# Altium footprint library Connector_Samtec_HLE_THT.PcbLib: 141 footprints (part 2 of 9)
Each footprint in its own frame and in the unit in brackets; x right, y up, seen from the top. Pads: shape width x height; smd on the part's side, far side on the other; paste and mask are expansions set on the pad; w line width, h text height; cw(c..) or ccw(c..) is an arc to the next point about the centre after c.
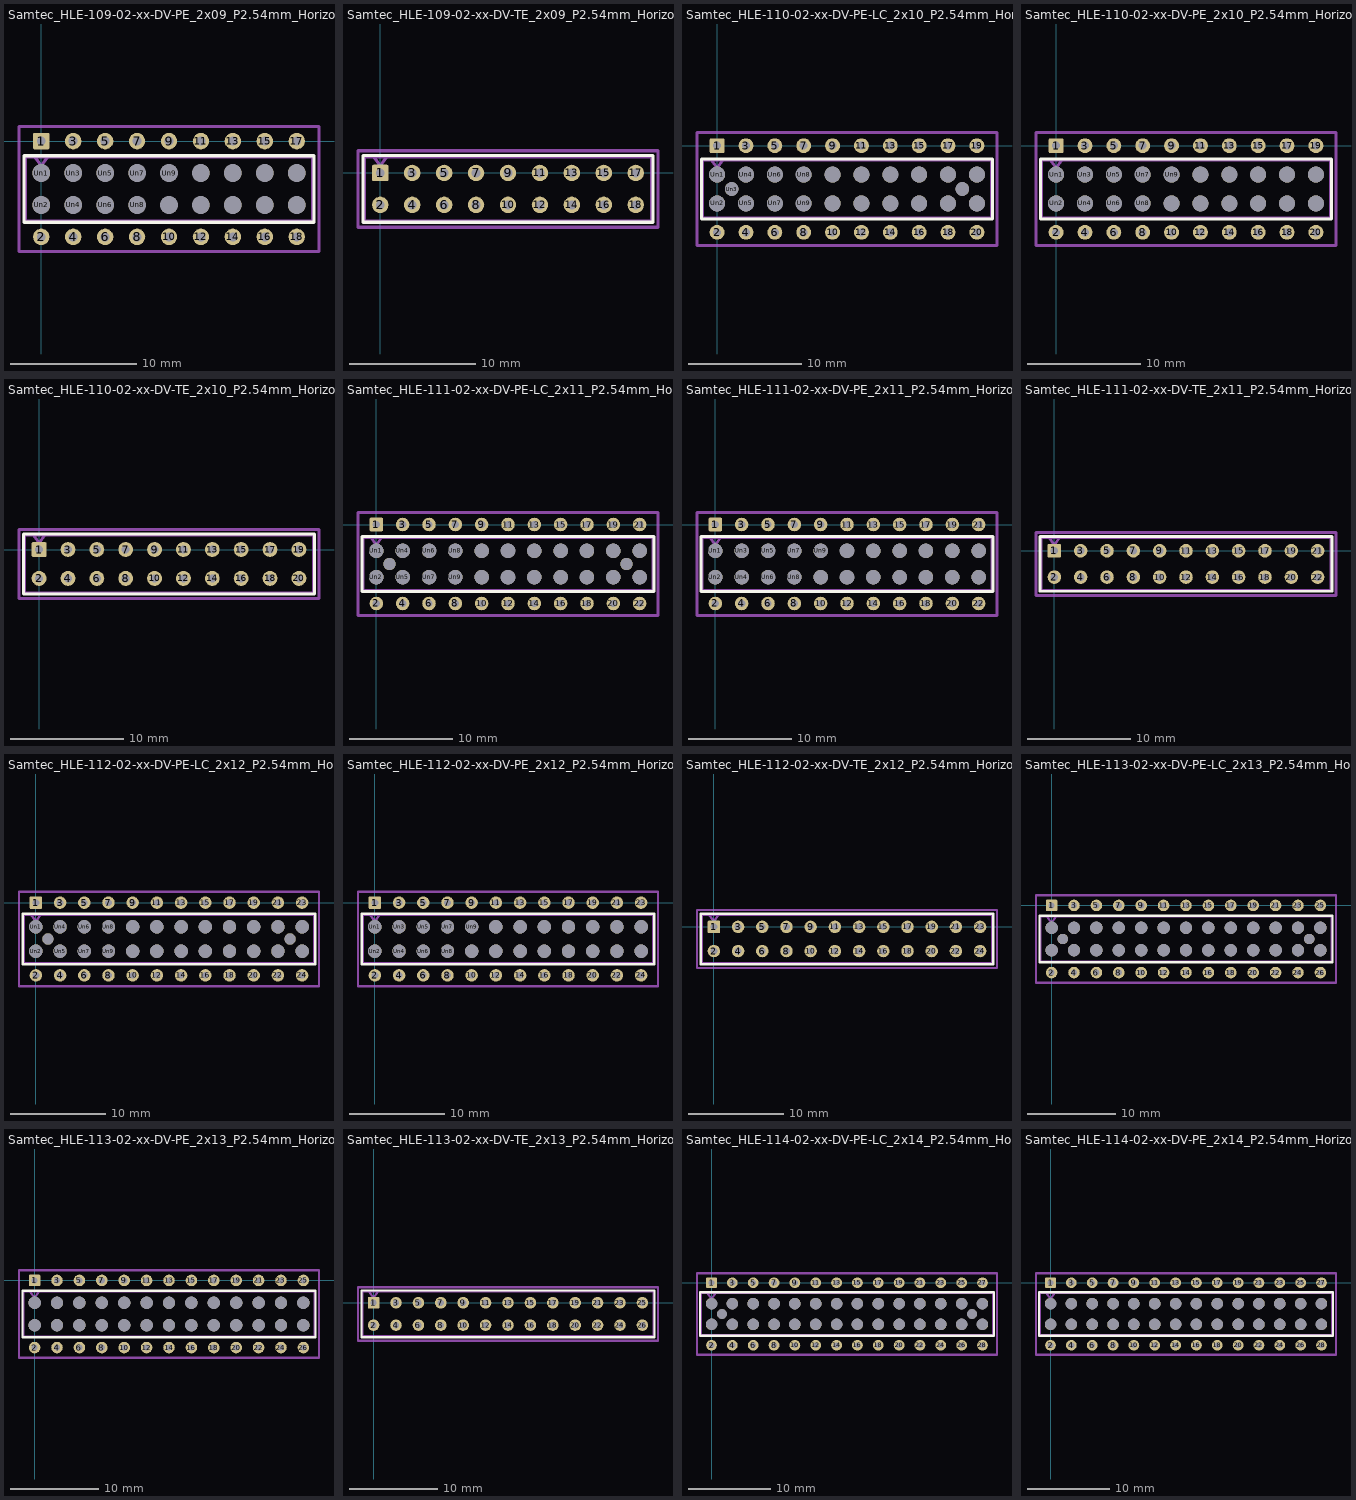
[diagram p1: the footprints below, top view; thin cyan lines are the x and y axes]

## Samtec_HLE-109-02-xx-DV-PE_2x09_P2.54mm_Horizontal [mm]
pads (36):
  rrect19% 1.31x1.31 hole 0.71: 1(0,0)
  round 1.31 hole 0.71: 2(0,-7.62) 3(2.54,0) 4(2.54,-7.62) 5(5.08,0) 6(5.08,-7.62) 7(7.62,0) 8(7.62,-7.62) 9(10.16,0) 10(10.16,-7.62) 11(12.7,0) 12(12.7,-7.62) 13(15.24,0) 14(15.24,-7.62) 15(17.78,0) 16(17.78,-7.62) 17(20.32,0) 18(20.32,-7.62)
  round 1.4 hole 1.4: Un1(0,-2.54) Un2(0,-5.08) Un3(2.54,-2.54) Un4(2.54,-5.08) Un5(5.08,-2.54) Un6(5.08,-5.08) Un7(7.62,-2.54) Un8(7.62,-5.08) Un9(10.16,-2.54) Un10(10.16,-5.08) Un11(12.7,-2.54) Un12(12.7,-5.08) Un13(15.24,-2.54) Un14(15.24,-5.08) Un15(17.78,-2.54) Un16(17.78,-5.08) Un17(20.32,-2.54) Un18(20.32,-5.08)
F.SilkS:
  lines w0.254: -1.38,-6.46 21.7,-6.46 21.7,-1.16 -1.38,-1.16 -1.38,-6.46
Top Assembly:
  lines w0.254: -0.5,-1.27 0,-1.977 0.5,-1.27 ; -1.27,-6.35 21.59,-6.35 21.59,-1.27 -1.27,-1.27 -1.27,-6.35
  text "'.Designator'" at 6.113,-6.49 h1
Top Courtyard:
  lines w0.254: -1.77,-8.78 22.09,-8.78 22.09,1.16 -1.77,1.16 -1.77,-8.78
Top Designator:
  text ".Designator" at 2.542,-4.318 h1.52

## Samtec_HLE-109-02-xx-DV-TE_2x09_P2.54mm_Horizontal [mm]
pads (18):
  rrect19% 1.31x1.31 hole 0.71: 1(0,0)
  round 1.31 hole 0.71: 2(0,-2.54) 3(2.54,0) 4(2.54,-2.54) 5(5.08,0) 6(5.08,-2.54) 7(7.62,0) 8(7.62,-2.54) 9(10.16,0) 10(10.16,-2.54) 11(12.7,0) 12(12.7,-2.54) 13(15.24,0) 14(15.24,-2.54) 15(17.78,0) 16(17.78,-2.54) 17(20.32,0) 18(20.32,-2.54)
F.SilkS:
  lines w0.254: -1.38,-3.92 21.7,-3.92 21.7,1.38 -1.38,1.38 -1.38,-3.92
Top Assembly:
  lines w0.254: -0.5,1.27 0,0.563 0.5,1.27 ; -1.27,-3.81 21.59,-3.81 21.59,1.27 -1.27,1.27 -1.27,-3.81
  text "'.Designator'" at 6.113,-3.95 h1
Top Courtyard:
  lines w0.254: -1.77,-4.32 22.09,-4.32 22.09,1.77 -1.77,1.77 -1.77,-4.32
Top Designator:
  text ".Designator" at 2.542,-1.783 h1.52

## Samtec_HLE-110-02-xx-DV-PE-LC_2x10_P2.54mm_Horizontal [mm]
pads (42):
  rrect19% 1.31x1.31 hole 0.71: 1(0,0)
  round 1.31 hole 0.71: 2(0,-7.62) 3(2.54,0) 4(2.54,-7.62) 5(5.08,0) 6(5.08,-7.62) 7(7.62,0) 8(7.62,-7.62) 9(10.16,0) 10(10.16,-7.62) 11(12.7,0) 12(12.7,-7.62) 13(15.24,0) 14(15.24,-7.62) 15(17.78,0) 16(17.78,-7.62) 17(20.32,0) 18(20.32,-7.62) 19(22.86,0) 20(22.86,-7.62)
  round 1.4 hole 1.4: Un1(0,-2.54) Un2(0,-5.08) Un4(2.54,-2.54) Un5(2.54,-5.08) Un6(5.08,-2.54) Un7(5.08,-5.08) Un8(7.62,-2.54) Un9(7.62,-5.08) Un10(10.16,-2.54) Un11(10.16,-5.08) Un12(12.7,-2.54) Un13(12.7,-5.08) Un14(15.24,-2.54) Un15(15.24,-5.08) Un16(17.78,-2.54) Un17(17.78,-5.08) Un18(20.32,-2.54) Un19(20.32,-5.08) Un21(22.86,-2.54) Un22(22.86,-5.08)
  round 1.19 hole 1.19: Un3(1.27,-3.81) Un20(21.59,-3.81)
F.SilkS:
  lines w0.254: -1.38,-6.46 24.24,-6.46 24.24,-1.16 -1.38,-1.16 -1.38,-6.46
Top Assembly:
  lines w0.254: -0.5,-1.27 0,-1.977 0.5,-1.27 ; -1.27,-6.35 24.13,-6.35 24.13,-1.27 -1.27,-1.27 -1.27,-6.35
  text "'.Designator'" at 7.383,-6.49 h1
Top Courtyard:
  lines w0.254: -1.77,-8.78 24.63,-8.78 24.63,1.16 -1.77,1.16 -1.77,-8.78
Top Designator:
  text ".Designator" at 3.812,-4.318 h1.52

## Samtec_HLE-110-02-xx-DV-PE_2x10_P2.54mm_Horizontal [mm]
pads (40):
  rrect19% 1.31x1.31 hole 0.71: 1(0,0)
  round 1.31 hole 0.71: 2(0,-7.62) 3(2.54,0) 4(2.54,-7.62) 5(5.08,0) 6(5.08,-7.62) 7(7.62,0) 8(7.62,-7.62) 9(10.16,0) 10(10.16,-7.62) 11(12.7,0) 12(12.7,-7.62) 13(15.24,0) 14(15.24,-7.62) 15(17.78,0) 16(17.78,-7.62) 17(20.32,0) 18(20.32,-7.62) 19(22.86,0) 20(22.86,-7.62)
  round 1.4 hole 1.4: Un1(0,-2.54) Un2(0,-5.08) Un3(2.54,-2.54) Un4(2.54,-5.08) Un5(5.08,-2.54) Un6(5.08,-5.08) Un7(7.62,-2.54) Un8(7.62,-5.08) Un9(10.16,-2.54) Un10(10.16,-5.08) Un11(12.7,-2.54) Un12(12.7,-5.08) Un13(15.24,-2.54) Un14(15.24,-5.08) Un15(17.78,-2.54) Un16(17.78,-5.08) Un17(20.32,-2.54) Un18(20.32,-5.08) Un19(22.86,-2.54) Un20(22.86,-5.08)
F.SilkS:
  lines w0.254: -1.38,-6.46 24.24,-6.46 24.24,-1.16 -1.38,-1.16 -1.38,-6.46
Top Assembly:
  lines w0.254: -0.5,-1.27 0,-1.977 0.5,-1.27 ; -1.27,-6.35 24.13,-6.35 24.13,-1.27 -1.27,-1.27 -1.27,-6.35
  text "'.Designator'" at 7.383,-6.49 h1
Top Courtyard:
  lines w0.254: -1.77,-8.78 24.63,-8.78 24.63,1.16 -1.77,1.16 -1.77,-8.78
Top Designator:
  text ".Designator" at 3.812,-4.318 h1.52

## Samtec_HLE-110-02-xx-DV-TE_2x10_P2.54mm_Horizontal [mm]
pads (20):
  rrect19% 1.31x1.31 hole 0.71: 1(0,0)
  round 1.31 hole 0.71: 2(0,-2.54) 3(2.54,0) 4(2.54,-2.54) 5(5.08,0) 6(5.08,-2.54) 7(7.62,0) 8(7.62,-2.54) 9(10.16,0) 10(10.16,-2.54) 11(12.7,0) 12(12.7,-2.54) 13(15.24,0) 14(15.24,-2.54) 15(17.78,0) 16(17.78,-2.54) 17(20.32,0) 18(20.32,-2.54) 19(22.86,0) 20(22.86,-2.54)
F.SilkS:
  lines w0.254: -1.38,-3.92 24.24,-3.92 24.24,1.38 -1.38,1.38 -1.38,-3.92
Top Assembly:
  lines w0.254: -0.5,1.27 0,0.563 0.5,1.27 ; -1.27,-3.81 24.13,-3.81 24.13,1.27 -1.27,1.27 -1.27,-3.81
  text "'.Designator'" at 7.383,-3.95 h1
Top Courtyard:
  lines w0.254: -1.77,-4.32 24.63,-4.32 24.63,1.77 -1.77,1.77 -1.77,-4.32
Top Designator:
  text ".Designator" at 3.812,-1.783 h1.52

## Samtec_HLE-111-02-xx-DV-PE-LC_2x11_P2.54mm_Horizontal [mm]
pads (46):
  rrect19% 1.31x1.31 hole 0.71: 1(0,0)
  round 1.31 hole 0.71: 2(0,-7.62) 3(2.54,0) 4(2.54,-7.62) 5(5.08,0) 6(5.08,-7.62) 7(7.62,0) 8(7.62,-7.62) 9(10.16,0) 10(10.16,-7.62) 11(12.7,0) 12(12.7,-7.62) 13(15.24,0) 14(15.24,-7.62) 15(17.78,0) 16(17.78,-7.62) 17(20.32,0) 18(20.32,-7.62) 19(22.86,0) 20(22.86,-7.62) 21(25.4,0) 22(25.4,-7.62)
  round 1.4 hole 1.4: Un1(0,-2.54) Un2(0,-5.08) Un4(2.54,-2.54) Un5(2.54,-5.08) Un6(5.08,-2.54) Un7(5.08,-5.08) Un8(7.62,-2.54) Un9(7.62,-5.08) Un10(10.16,-2.54) Un11(10.16,-5.08) Un12(12.7,-2.54) Un13(12.7,-5.08) Un14(15.24,-2.54) Un15(15.24,-5.08) Un16(17.78,-2.54) Un17(17.78,-5.08) Un18(20.32,-2.54) Un19(20.32,-5.08) Un20(22.86,-2.54) Un21(22.86,-5.08) Un23(25.4,-2.54) Un24(25.4,-5.08)
  round 1.19 hole 1.19: Un3(1.27,-3.81) Un22(24.13,-3.81)
F.SilkS:
  lines w0.254: -1.38,-6.46 26.78,-6.46 26.78,-1.16 -1.38,-1.16 -1.38,-6.46
Top Assembly:
  lines w0.254: -0.5,-1.27 0,-1.977 0.5,-1.27 ; -1.27,-6.35 26.67,-6.35 26.67,-1.27 -1.27,-1.27 -1.27,-6.35
  text "'.Designator'" at 8.653,-6.49 h1
Top Courtyard:
  lines w0.254: -1.77,-8.78 27.17,-8.78 27.17,1.16 -1.77,1.16 -1.77,-8.78
Top Designator:
  text ".Designator" at 5.082,-4.318 h1.52

## Samtec_HLE-111-02-xx-DV-PE_2x11_P2.54mm_Horizontal [mm]
pads (44):
  rrect19% 1.31x1.31 hole 0.71: 1(0,0)
  round 1.31 hole 0.71: 2(0,-7.62) 3(2.54,0) 4(2.54,-7.62) 5(5.08,0) 6(5.08,-7.62) 7(7.62,0) 8(7.62,-7.62) 9(10.16,0) 10(10.16,-7.62) 11(12.7,0) 12(12.7,-7.62) 13(15.24,0) 14(15.24,-7.62) 15(17.78,0) 16(17.78,-7.62) 17(20.32,0) 18(20.32,-7.62) 19(22.86,0) 20(22.86,-7.62) 21(25.4,0) 22(25.4,-7.62)
  round 1.4 hole 1.4: Un1(0,-2.54) Un2(0,-5.08) Un3(2.54,-2.54) Un4(2.54,-5.08) Un5(5.08,-2.54) Un6(5.08,-5.08) Un7(7.62,-2.54) Un8(7.62,-5.08) Un9(10.16,-2.54) Un10(10.16,-5.08) Un11(12.7,-2.54) Un12(12.7,-5.08) Un13(15.24,-2.54) Un14(15.24,-5.08) Un15(17.78,-2.54) Un16(17.78,-5.08) Un17(20.32,-2.54) Un18(20.32,-5.08) Un19(22.86,-2.54) Un20(22.86,-5.08) Un21(25.4,-2.54) Un22(25.4,-5.08)
F.SilkS:
  lines w0.254: -1.38,-6.46 26.78,-6.46 26.78,-1.16 -1.38,-1.16 -1.38,-6.46
Top Assembly:
  lines w0.254: -0.5,-1.27 0,-1.977 0.5,-1.27 ; -1.27,-6.35 26.67,-6.35 26.67,-1.27 -1.27,-1.27 -1.27,-6.35
  text "'.Designator'" at 8.653,-6.49 h1
Top Courtyard:
  lines w0.254: -1.77,-8.78 27.17,-8.78 27.17,1.16 -1.77,1.16 -1.77,-8.78
Top Designator:
  text ".Designator" at 5.082,-4.318 h1.52

## Samtec_HLE-111-02-xx-DV-TE_2x11_P2.54mm_Horizontal [mm]
pads (22):
  rrect19% 1.31x1.31 hole 0.71: 1(0,0)
  round 1.31 hole 0.71: 2(0,-2.54) 3(2.54,0) 4(2.54,-2.54) 5(5.08,0) 6(5.08,-2.54) 7(7.62,0) 8(7.62,-2.54) 9(10.16,0) 10(10.16,-2.54) 11(12.7,0) 12(12.7,-2.54) 13(15.24,0) 14(15.24,-2.54) 15(17.78,0) 16(17.78,-2.54) 17(20.32,0) 18(20.32,-2.54) 19(22.86,0) 20(22.86,-2.54) 21(25.4,0) 22(25.4,-2.54)
F.SilkS:
  lines w0.254: -1.38,-3.92 26.78,-3.92 26.78,1.38 -1.38,1.38 -1.38,-3.92
Top Assembly:
  lines w0.254: -0.5,1.27 0,0.563 0.5,1.27 ; -1.27,-3.81 26.67,-3.81 26.67,1.27 -1.27,1.27 -1.27,-3.81
  text "'.Designator'" at 8.653,-3.95 h1
Top Courtyard:
  lines w0.254: -1.77,-4.32 27.17,-4.32 27.17,1.77 -1.77,1.77 -1.77,-4.32
Top Designator:
  text ".Designator" at 5.082,-1.783 h1.52

## Samtec_HLE-112-02-xx-DV-PE-LC_2x12_P2.54mm_Horizontal [mm]
pads (50):
  rrect19% 1.31x1.31 hole 0.71: 1(0,0)
  round 1.31 hole 0.71: 2(0,-7.62) 3(2.54,0) 4(2.54,-7.62) 5(5.08,0) 6(5.08,-7.62) 7(7.62,0) 8(7.62,-7.62) 9(10.16,0) 10(10.16,-7.62) 11(12.7,0) 12(12.7,-7.62) 13(15.24,0) 14(15.24,-7.62) 15(17.78,0) 16(17.78,-7.62) 17(20.32,0) 18(20.32,-7.62) 19(22.86,0) 20(22.86,-7.62) 21(25.4,0) 22(25.4,-7.62) 23(27.94,0) 24(27.94,-7.62)
  round 1.4 hole 1.4: Un1(0,-2.54) Un2(0,-5.08) Un4(2.54,-2.54) Un5(2.54,-5.08) Un6(5.08,-2.54) Un7(5.08,-5.08) Un8(7.62,-2.54) Un9(7.62,-5.08) Un10(10.16,-2.54) Un11(10.16,-5.08) Un12(12.7,-2.54) Un13(12.7,-5.08) Un14(15.24,-2.54) Un15(15.24,-5.08) Un16(17.78,-2.54) Un17(17.78,-5.08) Un18(20.32,-2.54) Un19(20.32,-5.08) Un20(22.86,-2.54) Un21(22.86,-5.08) Un22(25.4,-2.54) Un23(25.4,-5.08) Un25(27.94,-2.54) Un26(27.94,-5.08)
  round 1.19 hole 1.19: Un3(1.27,-3.81) Un24(26.67,-3.81)
F.SilkS:
  lines w0.254: -1.38,-6.46 29.32,-6.46 29.32,-1.16 -1.38,-1.16 -1.38,-6.46
Top Assembly:
  lines w0.254: -0.5,-1.27 0,-1.977 0.5,-1.27 ; -1.27,-6.35 29.21,-6.35 29.21,-1.27 -1.27,-1.27 -1.27,-6.35
  text "'.Designator'" at 9.923,-6.49 h1
Top Courtyard:
  lines w0.254: -1.77,-8.78 29.71,-8.78 29.71,1.16 -1.77,1.16 -1.77,-8.78
Top Designator:
  text ".Designator" at 6.352,-4.318 h1.52

## Samtec_HLE-112-02-xx-DV-PE_2x12_P2.54mm_Horizontal [mm]
pads (48):
  rrect19% 1.31x1.31 hole 0.71: 1(0,0)
  round 1.31 hole 0.71: 2(0,-7.62) 3(2.54,0) 4(2.54,-7.62) 5(5.08,0) 6(5.08,-7.62) 7(7.62,0) 8(7.62,-7.62) 9(10.16,0) 10(10.16,-7.62) 11(12.7,0) 12(12.7,-7.62) 13(15.24,0) 14(15.24,-7.62) 15(17.78,0) 16(17.78,-7.62) 17(20.32,0) 18(20.32,-7.62) 19(22.86,0) 20(22.86,-7.62) 21(25.4,0) 22(25.4,-7.62) 23(27.94,0) 24(27.94,-7.62)
  round 1.4 hole 1.4: Un1(0,-2.54) Un2(0,-5.08) Un3(2.54,-2.54) Un4(2.54,-5.08) Un5(5.08,-2.54) Un6(5.08,-5.08) Un7(7.62,-2.54) Un8(7.62,-5.08) Un9(10.16,-2.54) Un10(10.16,-5.08) Un11(12.7,-2.54) Un12(12.7,-5.08) Un13(15.24,-2.54) Un14(15.24,-5.08) Un15(17.78,-2.54) Un16(17.78,-5.08) Un17(20.32,-2.54) Un18(20.32,-5.08) Un19(22.86,-2.54) Un20(22.86,-5.08) Un21(25.4,-2.54) Un22(25.4,-5.08) Un23(27.94,-2.54) Un24(27.94,-5.08)
F.SilkS:
  lines w0.254: -1.38,-6.46 29.32,-6.46 29.32,-1.16 -1.38,-1.16 -1.38,-6.46
Top Assembly:
  lines w0.254: -0.5,-1.27 0,-1.977 0.5,-1.27 ; -1.27,-6.35 29.21,-6.35 29.21,-1.27 -1.27,-1.27 -1.27,-6.35
  text "'.Designator'" at 9.923,-6.49 h1
Top Courtyard:
  lines w0.254: -1.77,-8.78 29.71,-8.78 29.71,1.16 -1.77,1.16 -1.77,-8.78
Top Designator:
  text ".Designator" at 6.352,-4.318 h1.52

## Samtec_HLE-112-02-xx-DV-TE_2x12_P2.54mm_Horizontal [mm]
pads (24):
  rrect19% 1.31x1.31 hole 0.71: 1(0,0)
  round 1.31 hole 0.71: 2(0,-2.54) 3(2.54,0) 4(2.54,-2.54) 5(5.08,0) 6(5.08,-2.54) 7(7.62,0) 8(7.62,-2.54) 9(10.16,0) 10(10.16,-2.54) 11(12.7,0) 12(12.7,-2.54) 13(15.24,0) 14(15.24,-2.54) 15(17.78,0) 16(17.78,-2.54) 17(20.32,0) 18(20.32,-2.54) 19(22.86,0) 20(22.86,-2.54) 21(25.4,0) 22(25.4,-2.54) 23(27.94,0) 24(27.94,-2.54)
F.SilkS:
  lines w0.254: -1.38,-3.92 29.32,-3.92 29.32,1.38 -1.38,1.38 -1.38,-3.92
Top Assembly:
  lines w0.254: -0.5,1.27 0,0.563 0.5,1.27 ; -1.27,-3.81 29.21,-3.81 29.21,1.27 -1.27,1.27 -1.27,-3.81
  text "'.Designator'" at 9.923,-3.95 h1
Top Courtyard:
  lines w0.254: -1.77,-4.32 29.71,-4.32 29.71,1.77 -1.77,1.77 -1.77,-4.32
Top Designator:
  text ".Designator" at 6.352,-1.783 h1.52

## Samtec_HLE-113-02-xx-DV-PE-LC_2x13_P2.54mm_Horizontal [mm]
pads (54):
  rrect19% 1.31x1.31 hole 0.71: 1(0,0)
  round 1.31 hole 0.71: 2(0,-7.62) 3(2.54,0) 4(2.54,-7.62) 5(5.08,0) 6(5.08,-7.62) 7(7.62,0) 8(7.62,-7.62) 9(10.16,0) 10(10.16,-7.62) 11(12.7,0) 12(12.7,-7.62) 13(15.24,0) 14(15.24,-7.62) 15(17.78,0) 16(17.78,-7.62) 17(20.32,0) 18(20.32,-7.62) 19(22.86,0) 20(22.86,-7.62) 21(25.4,0) 22(25.4,-7.62) 23(27.94,0) 24(27.94,-7.62) 25(30.48,0) 26(30.48,-7.62)
  round 1.4 hole 1.4: Un1(0,-2.54) Un2(0,-5.08) Un4(2.54,-2.54) Un5(2.54,-5.08) Un6(5.08,-2.54) Un7(5.08,-5.08) Un8(7.62,-2.54) Un9(7.62,-5.08) Un10(10.16,-2.54) Un11(10.16,-5.08) Un12(12.7,-2.54) Un13(12.7,-5.08) Un14(15.24,-2.54) Un15(15.24,-5.08) Un16(17.78,-2.54) Un17(17.78,-5.08) Un18(20.32,-2.54) Un19(20.32,-5.08) Un20(22.86,-2.54) Un21(22.86,-5.08) Un22(25.4,-2.54) Un23(25.4,-5.08) Un24(27.94,-2.54) Un25(27.94,-5.08) Un27(30.48,-2.54) Un28(30.48,-5.08)
  round 1.19 hole 1.19: Un3(1.27,-3.81) Un26(29.21,-3.81)
F.SilkS:
  lines w0.254: -1.38,-6.46 31.86,-6.46 31.86,-1.16 -1.38,-1.16 -1.38,-6.46
Top Assembly:
  lines w0.254: -0.5,-1.27 0,-1.977 0.5,-1.27 ; -1.27,-6.35 31.75,-6.35 31.75,-1.27 -1.27,-1.27 -1.27,-6.35
  text "'.Designator'" at 11.193,-6.49 h1
Top Courtyard:
  lines w0.254: -1.77,-8.78 32.25,-8.78 32.25,1.16 -1.77,1.16 -1.77,-8.78
Top Designator:
  text ".Designator" at 7.622,-4.318 h1.52

## Samtec_HLE-113-02-xx-DV-PE_2x13_P2.54mm_Horizontal [mm]
pads (52):
  rrect19% 1.31x1.31 hole 0.71: 1(0,0)
  round 1.31 hole 0.71: 2(0,-7.62) 3(2.54,0) 4(2.54,-7.62) 5(5.08,0) 6(5.08,-7.62) 7(7.62,0) 8(7.62,-7.62) 9(10.16,0) 10(10.16,-7.62) 11(12.7,0) 12(12.7,-7.62) 13(15.24,0) 14(15.24,-7.62) 15(17.78,0) 16(17.78,-7.62) 17(20.32,0) 18(20.32,-7.62) 19(22.86,0) 20(22.86,-7.62) 21(25.4,0) 22(25.4,-7.62) 23(27.94,0) 24(27.94,-7.62) 25(30.48,0) 26(30.48,-7.62)
  round 1.4 hole 1.4: Un1(0,-2.54) Un2(0,-5.08) Un3(2.54,-2.54) Un4(2.54,-5.08) Un5(5.08,-2.54) Un6(5.08,-5.08) Un7(7.62,-2.54) Un8(7.62,-5.08) Un9(10.16,-2.54) Un10(10.16,-5.08) Un11(12.7,-2.54) Un12(12.7,-5.08) Un13(15.24,-2.54) Un14(15.24,-5.08) Un15(17.78,-2.54) Un16(17.78,-5.08) Un17(20.32,-2.54) Un18(20.32,-5.08) Un19(22.86,-2.54) Un20(22.86,-5.08) Un21(25.4,-2.54) Un22(25.4,-5.08) Un23(27.94,-2.54) Un24(27.94,-5.08) Un25(30.48,-2.54) Un26(30.48,-5.08)
F.SilkS:
  lines w0.254: -1.38,-6.46 31.86,-6.46 31.86,-1.16 -1.38,-1.16 -1.38,-6.46
Top Assembly:
  lines w0.254: -0.5,-1.27 0,-1.977 0.5,-1.27 ; -1.27,-6.35 31.75,-6.35 31.75,-1.27 -1.27,-1.27 -1.27,-6.35
  text "'.Designator'" at 11.193,-6.49 h1
Top Courtyard:
  lines w0.254: -1.77,-8.78 32.25,-8.78 32.25,1.16 -1.77,1.16 -1.77,-8.78
Top Designator:
  text ".Designator" at 7.622,-4.318 h1.52

## Samtec_HLE-113-02-xx-DV-TE_2x13_P2.54mm_Horizontal [mm]
pads (26):
  rrect19% 1.31x1.31 hole 0.71: 1(0,0)
  round 1.31 hole 0.71: 2(0,-2.54) 3(2.54,0) 4(2.54,-2.54) 5(5.08,0) 6(5.08,-2.54) 7(7.62,0) 8(7.62,-2.54) 9(10.16,0) 10(10.16,-2.54) 11(12.7,0) 12(12.7,-2.54) 13(15.24,0) 14(15.24,-2.54) 15(17.78,0) 16(17.78,-2.54) 17(20.32,0) 18(20.32,-2.54) 19(22.86,0) 20(22.86,-2.54) 21(25.4,0) 22(25.4,-2.54) 23(27.94,0) 24(27.94,-2.54) 25(30.48,0) 26(30.48,-2.54)
F.SilkS:
  lines w0.254: -1.38,-3.92 31.86,-3.92 31.86,1.38 -1.38,1.38 -1.38,-3.92
Top Assembly:
  lines w0.254: -0.5,1.27 0,0.563 0.5,1.27 ; -1.27,-3.81 31.75,-3.81 31.75,1.27 -1.27,1.27 -1.27,-3.81
  text "'.Designator'" at 11.193,-3.95 h1
Top Courtyard:
  lines w0.254: -1.77,-4.32 32.25,-4.32 32.25,1.77 -1.77,1.77 -1.77,-4.32
Top Designator:
  text ".Designator" at 7.622,-1.783 h1.52

## Samtec_HLE-114-02-xx-DV-PE-LC_2x14_P2.54mm_Horizontal [mm]
pads (58):
  rrect19% 1.31x1.31 hole 0.71: 1(0,0)
  round 1.31 hole 0.71: 2(0,-7.62) 3(2.54,0) 4(2.54,-7.62) 5(5.08,0) 6(5.08,-7.62) 7(7.62,0) 8(7.62,-7.62) 9(10.16,0) 10(10.16,-7.62) 11(12.7,0) 12(12.7,-7.62) 13(15.24,0) 14(15.24,-7.62) 15(17.78,0) 16(17.78,-7.62) 17(20.32,0) 18(20.32,-7.62) 19(22.86,0) 20(22.86,-7.62) 21(25.4,0) 22(25.4,-7.62) 23(27.94,0) 24(27.94,-7.62) 25(30.48,0) 26(30.48,-7.62) 27(33.02,0) 28(33.02,-7.62)
  round 1.4 hole 1.4: Un1(0,-2.54) Un2(0,-5.08) Un4(2.54,-2.54) Un5(2.54,-5.08) Un6(5.08,-2.54) Un7(5.08,-5.08) Un8(7.62,-2.54) Un9(7.62,-5.08) Un10(10.16,-2.54) Un11(10.16,-5.08) Un12(12.7,-2.54) Un13(12.7,-5.08) Un14(15.24,-2.54) Un15(15.24,-5.08) Un16(17.78,-2.54) Un17(17.78,-5.08) Un18(20.32,-2.54) Un19(20.32,-5.08) Un20(22.86,-2.54) Un21(22.86,-5.08) Un22(25.4,-2.54) Un23(25.4,-5.08) Un24(27.94,-2.54) Un25(27.94,-5.08) Un26(30.48,-2.54) Un27(30.48,-5.08) Un29(33.02,-2.54) Un30(33.02,-5.08)
  round 1.19 hole 1.19: Un3(1.27,-3.81) Un28(31.75,-3.81)
F.SilkS:
  lines w0.254: -1.38,-6.46 34.4,-6.46 34.4,-1.16 -1.38,-1.16 -1.38,-6.46
Top Assembly:
  lines w0.254: -0.5,-1.27 0,-1.977 0.5,-1.27 ; -1.27,-6.35 34.29,-6.35 34.29,-1.27 -1.27,-1.27 -1.27,-6.35
  text "'.Designator'" at 12.463,-6.49 h1
Top Courtyard:
  lines w0.254: -1.77,-8.78 34.79,-8.78 34.79,1.16 -1.77,1.16 -1.77,-8.78
Top Designator:
  text ".Designator" at 8.892,-4.318 h1.52

## Samtec_HLE-114-02-xx-DV-PE_2x14_P2.54mm_Horizontal [mm]
pads (56):
  rrect19% 1.31x1.31 hole 0.71: 1(0,0)
  round 1.31 hole 0.71: 2(0,-7.62) 3(2.54,0) 4(2.54,-7.62) 5(5.08,0) 6(5.08,-7.62) 7(7.62,0) 8(7.62,-7.62) 9(10.16,0) 10(10.16,-7.62) 11(12.7,0) 12(12.7,-7.62) 13(15.24,0) 14(15.24,-7.62) 15(17.78,0) 16(17.78,-7.62) 17(20.32,0) 18(20.32,-7.62) 19(22.86,0) 20(22.86,-7.62) 21(25.4,0) 22(25.4,-7.62) 23(27.94,0) 24(27.94,-7.62) 25(30.48,0) 26(30.48,-7.62) 27(33.02,0) 28(33.02,-7.62)
  round 1.4 hole 1.4: Un1(0,-2.54) Un2(0,-5.08) Un3(2.54,-2.54) Un4(2.54,-5.08) Un5(5.08,-2.54) Un6(5.08,-5.08) Un7(7.62,-2.54) Un8(7.62,-5.08) Un9(10.16,-2.54) Un10(10.16,-5.08) Un11(12.7,-2.54) Un12(12.7,-5.08) Un13(15.24,-2.54) Un14(15.24,-5.08) Un15(17.78,-2.54) Un16(17.78,-5.08) Un17(20.32,-2.54) Un18(20.32,-5.08) Un19(22.86,-2.54) Un20(22.86,-5.08) Un21(25.4,-2.54) Un22(25.4,-5.08) Un23(27.94,-2.54) Un24(27.94,-5.08) Un25(30.48,-2.54) Un26(30.48,-5.08) Un27(33.02,-2.54) Un28(33.02,-5.08)
F.SilkS:
  lines w0.254: -1.38,-6.46 34.4,-6.46 34.4,-1.16 -1.38,-1.16 -1.38,-6.46
Top Assembly:
  lines w0.254: -0.5,-1.27 0,-1.977 0.5,-1.27 ; -1.27,-6.35 34.29,-6.35 34.29,-1.27 -1.27,-1.27 -1.27,-6.35
  text "'.Designator'" at 12.463,-6.49 h1
Top Courtyard:
  lines w0.254: -1.77,-8.78 34.79,-8.78 34.79,1.16 -1.77,1.16 -1.77,-8.78
Top Designator:
  text ".Designator" at 8.892,-4.318 h1.52